# Altium integrated library BM03B-GHS-TBT_LF__SN__N_.IntLib: 1 symbol
Pins are listed as number, name and electrical type; pins without a type are passive.

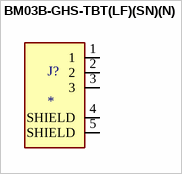
[diagram p0: symbol BM03B-GHS-TBT(LF)(SN)(N)]

## BM03B-GHS-TBT(LF)(SN)(N)
designator J?
Connector Header Surface Mount 3 position 0.049 (1.25mm); MF: JST Sales; MP: BM03B-GHS-TBT(LF)(SN)(N); SnapEDA_Link: https://www.snapeda.com/parts/BM03B-GHS-TBT(LF)(SN)(N)/JST/view-part/?ref=snap; Package: None; Value: *; Check_prices: https://www.snapeda.com/parts/BM03B-GHS-TBT(LF)(SN)(N)/JST/view-part/?ref=eda
footprint CONN_BM03B-GHS-TBT(LF)(SN)(N)
pins: 1, 2, 3, 4 SHIELD, 5 SHIELD